# EAGLE library part VCNL4040 (library FaBo-Sensor)
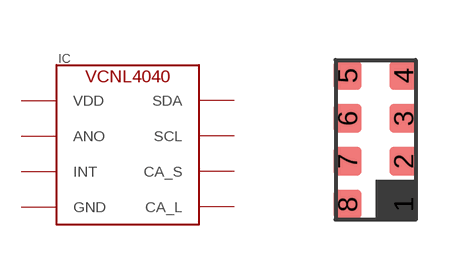
[diagram p12: symbol with the pads of VCNL4040M3OE; footprint VCNL4040M3OE]

Designator prefix IC

## VCNL4040M3OE  [VCNL4040M3OE]
1  GND
2  CA_S
3  VDD
4  ANO
5  CA_L
6  INT
7  SDA
8  SCL

## Footprint VCNL4040M3OE (pad centres in mm)
smd 0.7 x 0.725: 1 0.7,-1.613; 2 0.7,-0.537; 3 0.7,0.537; 4 0.7,1.613; 5 -0.7,1.613; 6 -0.7,0.537; 7 -0.7,-0.537; 8 -0.7,-1.613